# Altium schematic symbol library DOCK_ESP32_v1.0.SCHLIB: 93 symbols (part 2 of 2)
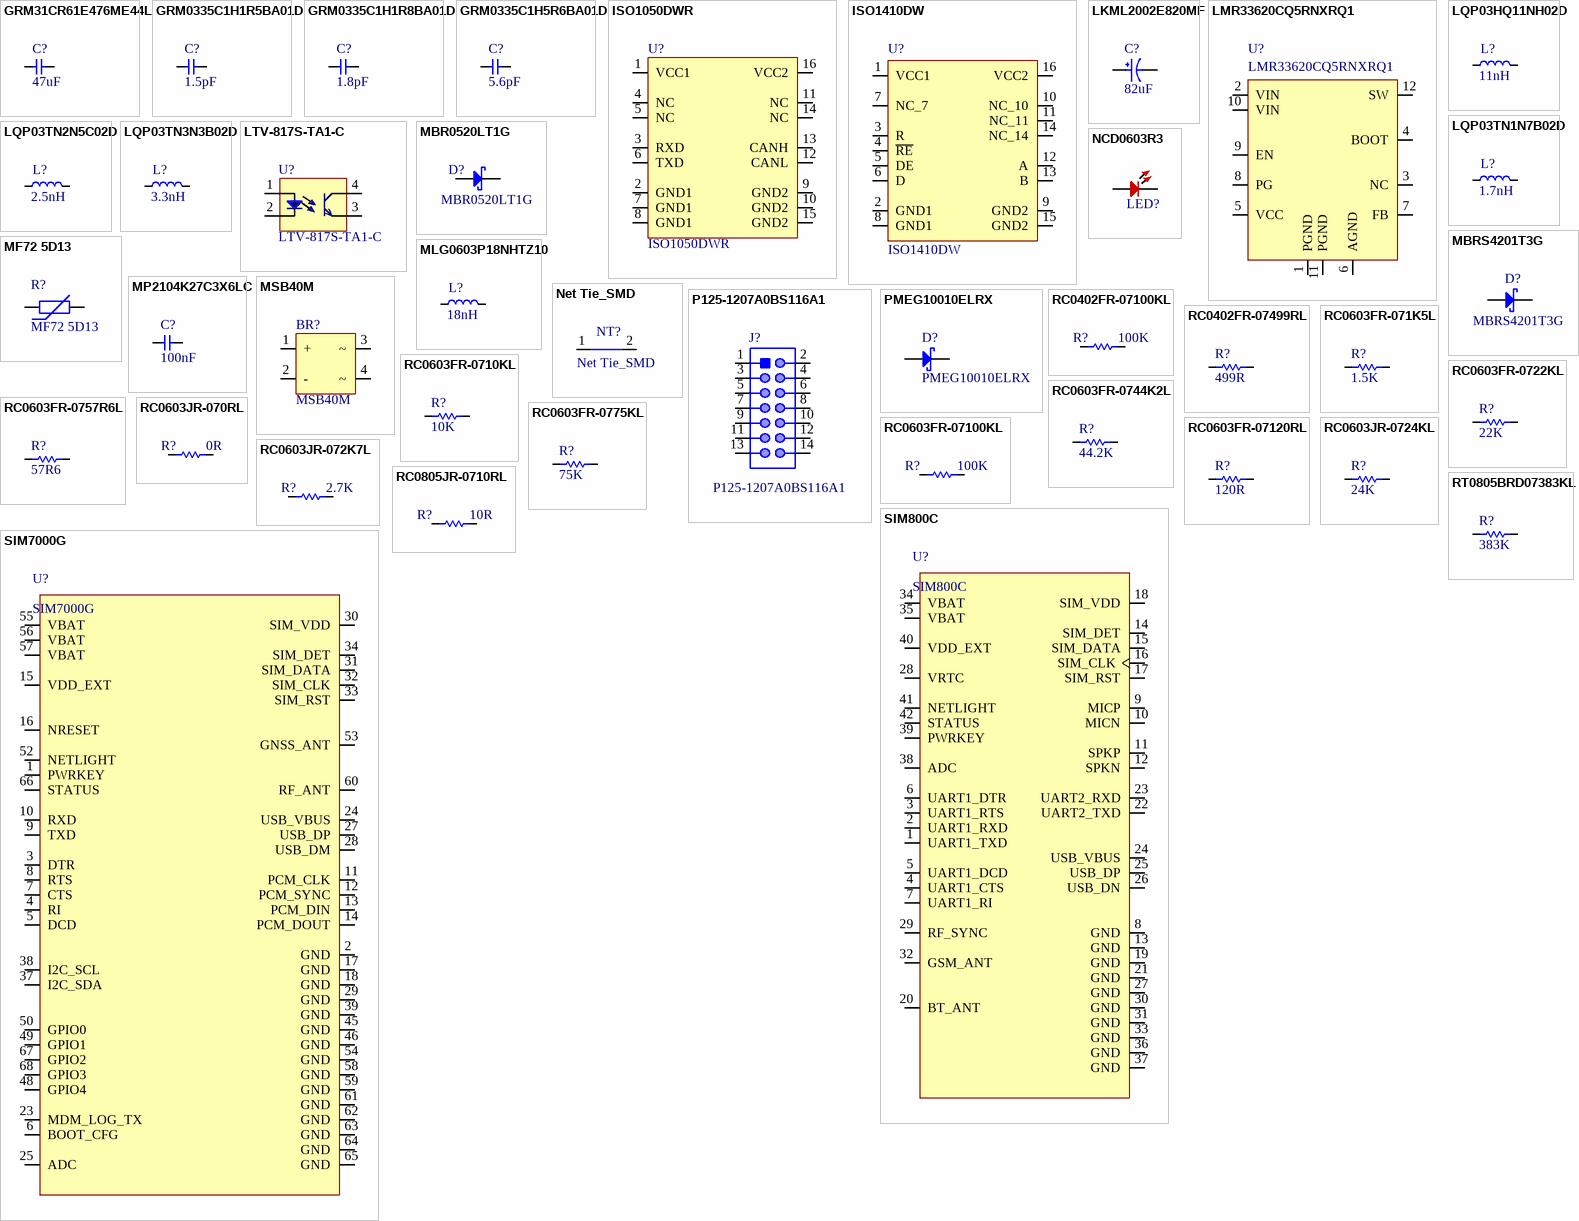
[diagram p3: symbols GRM31CR61E476ME44L to SIM7000G]

## RC0402FR-07100KL
designator R?, comment 100K
RES 100K OHM 1% 1/16W 0402; Manufacturer: Yageo; Manufacturer Part Number: RC0402FR-07100KL; Resistance: 100kR; Temperature Coefficient: 100ppm/°C; Power Rating: 63mW; Voltage Rating: 50V; Item Type: Resistor; Supplier 1: Mouser; RoHS: Yes; Category: Chip SMD Resistors; Stock 1: 7759549; Pricing 1: 1=0.10000, 10=0.01200, 50=0.01200, 100=0.00500, 1000=0.00300, 2500=0.00200, 10000=0.00100 (USD); Case/Package: 0402; Case Code (Metric): 1005; Case Code (Imperial): 0402; Min Operating Temperature: -55°C; Max Operating Temperature: 155°C; Resistor Type: Thick Film; Tolerance: 1%; Packaging: Tape and Reel; Package Quantity: 1; Number of Terminations: 2; Termination: SMD/SMT; Max Power Dissipation: 63mW; Working Voltage: 50V; Features: Moisture Resistant; Series: RC; Resistance Tolerance: 1%; Construction: Rectangular; Technology: THICK FILM; Length: 0.039inch; Width: 0.02inch; Height: 0.016inch; Depth: 0.5mm; REACH SVHC: No SVHC; Lead Free: Lead Free; RoHS Compliant: Yes; Military Standard: Not; ComponentLink1URL: https://datasheet.ciiva.com/11819/0900766b80c66297-11819452.pdf?src-supplier=RSComponents; ComponentLink1Description: https://datasheet.ciiva.com/11819/0900766b80c66297-11819452.pdf?src-supplier=RSComponents; ComponentLink2URL: https://datasheet.ciiva.com/22747/1018594-22747509.pdf?src-supplier=Element14; ComponentLink2Description: https://datasheet.ciiva.com/22747/1018594-22747509.pdf?src-supplier=Element14; ComponentLink3URL: https://datasheet.ciiva.com/2453/pyu-r-int-thick-7-2453362.pdf?src-supplier=Digi-Key; ComponentLink3Description: https://datasheet.ciiva.com/2453/pyu-r-int-thick-7-2453362.pdf?src-supplier=Digi-Key; ComponentLink4URL: https://datasheet.ciiva.com/2453/pyu-r-int-thick-7-2453363.pdf?src-supplier=Digi-Key; ComponentLink4Description: https://datasheet.ciiva.com/2453/pyu-r-int-thick-7-2453363.pdf?src-supplier=Digi-Key; ComponentLink5URL: https://datasheet.ciiva.com/2453/pyu-r-int-thick-7-2453361.pdf?src-supplier=Digi-Key; ComponentLink5Description: https://datasheet.ciiva.com/2453/pyu-r-int-thick-7-2453361.pdf?src-supplier=Digi-Key; ComponentLink6URL: https://datasheet.ciiva.com/12667/pyu-rc0402-51-rohs-l-6-r-12667930.pdf?src-supplier=Mouser; ComponentLink6Description: https://datasheet.ciiva.com/12667/pyu-rc0402-51-rohs-l-6-r-12667930.pdf?src-supplier=Mouser; ComponentLink7URL: https://datasheet.ciiva.com/15189/getdatasheetpartid-323696-15189334.pdf?src-supplier=Verical; ComponentLink7Description: https://datasheet.ciiva.com/15189/getdatasheetpartid-323696-15189334.pdf?src-supplier=Verical; Supplier Part Number 1: 603-RC0402FR-07100KL; LCSC Part Number: C60491
footprint Res-0402
pins: 1, 2

## RC0402FR-07499RL
designator R?, comment 499R
RES 499 OHM 1% 1/16W 0402; Manufacturer: Yageo; Manufacturer Part Number: RC0402FR-07499RL; Power Rating: 62.5mW; Voltage Rating: 50V; Max Power Dissipation: 63mW; Temperature Coefficient: 100ppm/°C; Supplier 1: Mouser; RoHS: Yes; Category: Chip SMD Resistors; Stock 1: 936879; Pricing 1: 1=0.10000, 10=0.01200, 50=0.01200, 100=0.00500, 1000=0.00300, 10000=0.00100 (USD); Case/Package: 0402; Case Code (Metric): 1005; Case Code (Imperial): 0402; Size Code: 0402; Min Operating Temperature: -55°C; Max Operating Temperature: 155°C; Resistance: 499R; Tolerance: 1%; Package Quantity: 1; Packaging: Tape and Reel; Resistor Type: Thick Film; Number of Terminations: 2; Termination: SMD/SMT; Voltage Rating (DC): 50V; Features: Moisture Resistant; Series: RC; Resistance Tolerance: 1%; Construction: Rectangular; Length: 1mm; Width: 0.02inch; Height: 0.016inch; Depth: 0.5mm; RoHS Compliant: Yes; REACH SVHC: No SVHC; Military Standard: Not; Lead Free: Lead Free; ComponentLink1URL: https://datasheet.ciiva.com/2453/pyu-r-int-thick-7-2453539.pdf?src-supplier=Digi-Key; ComponentLink1Description: https://datasheet.ciiva.com/2453/pyu-r-int-thick-7-2453539.pdf?src-supplier=Digi-Key; ComponentLink2URL: https://datasheet.ciiva.com/2453/pyu-r-int-thick-7-2453540.pdf?src-supplier=Digi-Key; ComponentLink2Description: https://datasheet.ciiva.com/2453/pyu-r-int-thick-7-2453540.pdf?src-supplier=Digi-Key; ComponentLink3URL: https://datasheet.ciiva.com/2453/pyu-r-int-thick-7-2453538.pdf?src-supplier=Digi-Key; ComponentLink3Description: https://datasheet.ciiva.com/2453/pyu-r-int-thick-7-2453538.pdf?src-supplier=Digi-Key; Supplier Part Number 1: 603-RC0402FR-07499RL; LCSC Part Number: C137970
footprint Res-0402
pins: 1, 2

## RC0603FR-071K5L
designator R?, comment 1.5K
RES 1.5K OHM 1% 1/10W 0603; Manufacturer: Yageo; Manufacturer Part Number: RC0603FR-071K5L; Voltage Rating (DC): 50V; Resistance: 1.5kR; Temperature Coefficient: 100ppm/°C; Power Rating: 100mW; Item Type: Resistor; Supplier 1: Arrow Electronics; RoHS: Yes; Category: Chip SMD Resistors; Stock 1: 15000; Pricing 1: 1=0.00160, 5000=0.00160 (USD); Case/Package: 0603; Number of Pins: 2; Case Code (Metric): 1608; Case Code (Imperial): 0603; Size Code: 0603; Min Operating Temperature: -55°C; Max Operating Temperature: 155°C; Tolerance: 1%; Packaging: Tape and Reel; Resistor Type: Thick Film; Voltage Rating: 50V; Package Quantity: 1; Number of Terminations: 2; Termination: SMD/SMT; Max Power Dissipation: 100mW; Features: Moisture Resistant; Series: RC; Resistance Tolerance: 1%; Construction: Rectangular; Length: 0.063inch; Width: 0.031inch; Height: 0.022inch; Depth: 0.8mm; REACH SVHC: No SVHC; Lead Free: Lead Free; Military Standard: Not; RoHS Compliant: Yes; Supplier Part Number 1: RC0603FR-071K5L; LCSC Part Number: C114668
footprint Res-0603
footprint Res-0603
pins: 1, 2

## RC0603FR-0710KL
designator R?, comment 10K
RES SMD 10K Ohm 1% 1/10W 0603; Manufacturer: Yageo; Manufacturer Part Number: RC0603FR-0710KL; Item Type: Resistor; Resistance: 10kR; Temperature Coefficient: 100ppm/°C; Voltage Rating (DC): 50V; Power Rating: 100mW; Voltage Rating: 75V; RoHS: Yes; Category: Chip SMD Resistors; LCSC Part Number: C98220; Supplier 1: Digi-Key; Stock 1: 25249139; Pricing 1: 1=0.10000, 10=0.02400, 100=0.00970, 1000=0.00436, 2500=0.00378 (USD); Case/Package: 0603; Number of Pins: 2; Case Code (Imperial): 0603; Case Code (Metric): 1608; Weight: 7.1E-05oz; Size Code: 0603; Min Operating Temperature: -55°C; Max Operating Temperature: 155°C; Tolerance: 1%; Resistor Type: Thick Film; Packaging: Tape and Reel; Termination: SMD/SMT; Features: Moisture Resistant; Series: RC; Max Power Dissipation: 100mW; Number of Terminations: 2; Resistance Tolerance: 1%; Construction: Rectangular; Length: 1.6mm; Width: 0.8mm; Height: 0.45mm; Depth: 0.8mm; Lead Pitch: 0.3mm; REACH SVHC: Unknown; Lead Free: Lead Free; Military Standard: Not; RoHS Compliant: Yes; ComponentLink1URL: https://datasheet.ciiva.com/7660/38590-7660789.pdf?src-supplier=Element14; ComponentLink1Description: https://datasheet.ciiva.com/7660/38590-7660789.pdf?src-supplier=Element14; ComponentLink2URL: https://datasheet.ciiva.com/7983/443971-7983596.pdf?src-supplier=Element14; ComponentLink2Description: https://datasheet.ciiva.com/7983/443971-7983596.pdf?src-supplier=Element14; ComponentLink3URL: https://datasheet.ciiva.com/22747/443971-22747519.pdf?src-supplier=Element14; ComponentLink3Description: https://datasheet.ciiva.com/22747/443971-22747519.pdf?src-supplier=Element14; ComponentLink4URL: https://datasheet.ciiva.com/46440/1868787-46440891.pdf?src-supplier=Element14; ComponentLink4Description: https://datasheet.ciiva.com/46440/1868787-46440891.pdf?src-supplier=Element14; ComponentLink5URL: https://datasheet.ciiva.com/7746/1738695-7746239.pdf?src-supplier=Element14; ComponentLink5Description: https://datasheet.ciiva.com/7746/1738695-7746239.pdf?src-supplier=Element14; ComponentLink6URL: https://datasheet.ciiva.com/15189/getdatasheetpartid-409289-15189591.pdf?src-supplier=Verical; ComponentLink6Description: https://datasheet.ciiva.com/15189/getdatasheetpartid-409289-15189591.pdf?src-supplier=Verical; Supplier Part Number 1: 311-10.0KHRCT-ND
footprint Res-0603
footprint Res-0603
pins: 1, 2

## RC0603FR-0722KL
designator R?, comment 22K
RES 22K OHM 1% 1/10W 0603; Manufacturer: Yageo; Manufacturer Part Number: RC0603FR-0722KL; Item Type: Resistors; Value: 22kR; Temperature Coefficient: 100ppm/°C; Voltage Rating (DC): 50V; Power Rating: 100mW; Shielding: 202Shielding; Current Rating: 290mA; Supplier: Future Electronics; LCSC Part Number: C114065; RoHS: Yes; Stock: 1285000; Pricing: 5000=0.0008, 50000=0.0008, 150000=0.0008, 375000=0.0008, 1000000=0.0007 (USD); Case/Package: 0603; Pins: 2; Case Code (Imperial): 0603; Case Code (Metric): 1608; Min Operating Temperature: -55°C; Max Operating Temperature: 155°C; Tolerance: 1%; Resistor Type: Thick Film; Packaging: Tape and Reel; Voltage Rating: 50V; Package Quantity: 1; Termination: SMD/SMT; Number of Terminations: 2; Max Power Dissipation: 100mW; Features: Moisture Resistant; Series: RC; Resistance Tolerance: 1%; Construction: Rectangular; Voltage Rating (AC): 50V; Diameter: 8.5mm; Length: 0.063inch; Width: 0.031inch; Height: 0.022inch; Depth: 0.8mm; Lead Pitch: 5mm; Radiation Hardening: 5898YesNo; Reach SVHC Compliant: No; Lead Free: 5697LeadFree; Military Standard: Not; RoHS Compliant: Yes; ComponentLink1URL: https://datasheet.ciiva.com/2454/pyu-r-int-thick-7-2454424.pdf?src-supplier=Digikey; ComponentLink1Description: https://datasheet.ciiva.com/2454/pyu-r-int-thick-7-2454424.pdf?src-supplier=Digikey; ComponentLink2URL: https://datasheet.ciiva.com/2454/pyu-r-int-thick-7-2454425.pdf?src-supplier=Digikey; ComponentLink2Description: https://datasheet.ciiva.com/2454/pyu-r-int-thick-7-2454425.pdf?src-supplier=Digikey; ComponentLink3URL: https://datasheet.ciiva.com/2454/pyu-r-int-thick-7-2454423.pdf?src-supplier=Digikey; ComponentLink3Description: https://datasheet.ciiva.com/2454/pyu-r-int-thick-7-2454423.pdf?src-supplier=Digikey; ComponentLink4URL: https://datasheet.ciiva.com/7746/443971-7746303.pdf?src-supplier=Element14; ComponentLink4Description: https://datasheet.ciiva.com/7746/443971-7746303.pdf?src-supplier=Element14; ComponentLink5URL: https://datasheet.ciiva.com/15189/getdatasheetpartid-413247-15189661.pdf?src-supplier=Verical; ComponentLink5Description: https://datasheet.ciiva.com/15189/getdatasheetpartid-413247-15189661.pdf?src-supplier=Verical; ComponentLink6URL: https://datasheet.ciiva.com/7746/1686128-7746302.pdf?src-supplier=Element14; ComponentLink6Description: https://datasheet.ciiva.com/7746/1686128-7746302.pdf?src-supplier=Element14; ComponentLink7URL: https://datasheet.ciiva.com/46412/443971-46412846.pdf?src-supplier=Element14; ComponentLink7Description: https://datasheet.ciiva.com/46412/443971-46412846.pdf?src-supplier=Element14
footprint Res-0603
pins: 1, 2

## RC0603FR-0744K2L
designator R?, comment 44.2K
RES 44.2K OHM 1% 1/10W 0603; Manufacturer: Yageo; Manufacturer Part Number: RC0603FR-0744K2L; Item Type: Resistors; Voltage Rating (DC): 50V; Supplier: Digikey; LCSC Part Number: C95684; RoHS: Yes; Stock: 163731; Pricing: 1=0.1, 10=0.009, 100=0.0071, 1000=0.00612, 2500=0.00461 (USD); Lead Free: 5697LeadFree; ComponentLink1URL: https://datasheet.ciiva.com/11819/0900766b80f96399-11819371.pdf?src-supplier=Rs; ComponentLink1Description: https://datasheet.ciiva.com/11819/0900766b80f96399-11819371.pdf?src-supplier=Rs; ComponentLink2URL: https://datasheet.ciiva.com/2455/pyu-r-int-thick-7-2455152.pdf?src-supplier=Digikey; ComponentLink2Description: https://datasheet.ciiva.com/2455/pyu-r-int-thick-7-2455152.pdf?src-supplier=Digikey; ComponentLink3URL: https://datasheet.ciiva.com/2455/pyu-r-int-thick-7-2455153.pdf?src-supplier=Digikey; ComponentLink3Description: https://datasheet.ciiva.com/2455/pyu-r-int-thick-7-2455153.pdf?src-supplier=Digikey; ComponentLink4URL: https://datasheet.ciiva.com/2455/pyu-r-int-thick-7-2455154.pdf?src-supplier=Digikey; ComponentLink4Description: https://datasheet.ciiva.com/2455/pyu-r-int-thick-7-2455154.pdf?src-supplier=Digikey
footprint Res-0603
pins: 1, 2

## RC0603FR-0757R6L
designator R?, comment 57R6
RES SMD 57.6 OHM 1% 1/10W 0603; Manufacturer: Yageo; Manufacturer Part Number: RC0603FR-0757R6L; Voltage Rating: 50V; Power Rating: 100mW; Temperature Coefficient: 100ppm/°C; Resistance: 57.6R; RoHS: Yes; Category: Chip SMD Resistors; Case/Package: 0603; Case Code (Metric): 1608; Case Code (Imperial): 0603; Min Operating Temperature: -55°C; Max Operating Temperature: 155°C; Tolerance: 1%; Packaging: Tape and Reel; Package Quantity: 1; Termination: SMD/SMT; Number of Terminations: 2; Max Power Dissipation: 100mW; Voltage Rating (DC): 50V; Series: RC; Length: 1.6mm; Width: 0.031inch; Height: 0.022inch; Lead Free: Lead Free; RoHS Compliant: Yes; ComponentLink1URL: https://datasheet.ciiva.com/2455/pyu-r-int-thick-7-2455376.pdf?src-supplier=Digi-Key; ComponentLink1Description: https://datasheet.ciiva.com/2455/pyu-r-int-thick-7-2455376.pdf?src-supplier=Digi-Key; ComponentLink2URL: https://datasheet.ciiva.com/28398/pyu-rc0603-51-rohs-l-4-28398203.pdf?src-supplier=Avnet+Europe; ComponentLink2Description: https://datasheet.ciiva.com/28398/pyu-rc0603-51-rohs-l-4-28398203.pdf?src-supplier=Avnet+Europe; LCSC Part Number: C245984; Supplier 1: Digi-Key; Stock 1: 27520; Pricing 1: 1=0.10000, 10=0.02400, 100=0.00970, 1000=0.00436, 2500=0.00378 (USD); Contact Plating: Tin,Matte; Resistor Type: Thick Film; Features: Moisture Resistant; Construction: Rectangular; Depth: 0.8mm; Military Standard: Not; ComponentLink3URL: https://datasheet.ciiva.com/2455/pyu-r-int-thick-7-2455374.pdf?src-supplier=Digi-Key; ComponentLink3Description: https://datasheet.ciiva.com/2455/pyu-r-int-thick-7-2455374.pdf?src-supplier=Digi-Key; ComponentLink4URL: https://datasheet.ciiva.com/12561/rc0603-272842-12561230.pdf?src-supplier=Mouser; ComponentLink4Description: https://datasheet.ciiva.com/12561/rc0603-272842-12561230.pdf?src-supplier=Mouser; ComponentLink5URL: https://datasheet.ciiva.com/2455/pyu-r-int-thick-7-2455375.pdf?src-supplier=Digi-Key; ComponentLink5Description: https://datasheet.ciiva.com/2455/pyu-r-int-thick-7-2455375.pdf?src-supplier=Digi-Key; Supplier Part Number 1: 311-57.6HRCT-ND
footprint Res-0603
footprint Res-0603
pins: 1, 2

## RC0603FR-0775KL
designator R?, comment 75K
RES 75K OHM 1% 1/10W 0603; Manufacturer: Yageo; Manufacturer Part Number: RC0603FR-0775KL; Item Type: Resistor; Value: 75kR; Power Rating: 100mW; Voltage Rating: 50V; Temperature Coefficient: 100ppm/°C; Supplier: Future Electronics; LCSC Part Number: C114636; RoHS: Yes; Stock: 550000; Pricing: 5000=0.0015, 75000=0.0015, 250000=0.0014, 750000=0.0013, 2500000=0.0012 (USD); Case/Package: 0603; Pins: 2NUMBER; Case Code (Imperial): 0603; Case Code (Metric): 1608; Min Operating Temperature: -55°C; Max Operating Temperature: 155°C; Tolerance: 1%; Packaging: Tape and Reel; Termination: SMD/SMT; Resistor Type: Thick Film; Number of Terminations: 2; Max Power Dissipation: 100mW; Features: Moisture Resistant; Series: RC; Technology: THICK FILM; Resistance Tolerance: 1%; Construction: Rectangular; Voltage Rating (DC): 50V; Length: 1.6mm; Height: 0.45mm; Depth: 0.8mm; RoHS Compliant: Yes; Reach SVHC Compliant: No; Military Standard: Not; Lead Free: 5697LeadFree; ComponentLink1URL: https://datasheet.ciiva.com/11808/0900766b80f96399-11808100.pdf?src-supplier=Rs; ComponentLink1Description: https://datasheet.ciiva.com/11808/0900766b80f96399-11808100.pdf?src-supplier=Rs; ComponentLink2URL: https://datasheet.ciiva.com/15189/getdatasheetpartid-326733-15189816.pdf?src-supplier=Verical; ComponentLink2Description: https://datasheet.ciiva.com/15189/getdatasheetpartid-326733-15189816.pdf?src-supplier=Verical; ComponentLink3URL: https://datasheet.ciiva.com/2455/pyu-r-int-thick-7-2455324.pdf?src-supplier=Digikey; ComponentLink3Description: https://datasheet.ciiva.com/2455/pyu-r-int-thick-7-2455324.pdf?src-supplier=Digikey; ComponentLink4URL: https://datasheet.ciiva.com/2455/pyu-r-int-thick-7-2455325.pdf?src-supplier=Digikey; ComponentLink4Description: https://datasheet.ciiva.com/2455/pyu-r-int-thick-7-2455325.pdf?src-supplier=Digikey; ComponentLink5URL: https://datasheet.ciiva.com/2455/pyu-r-int-thick-7-2455323.pdf?src-supplier=Digikey; ComponentLink5Description: https://datasheet.ciiva.com/2455/pyu-r-int-thick-7-2455323.pdf?src-supplier=Digikey; ComponentLink6URL: https://datasheet.ciiva.com/46395/443971-46395017.pdf?src-supplier=Element14; ComponentLink6Description: https://datasheet.ciiva.com/46395/443971-46395017.pdf?src-supplier=Element14
footprint Res-0603
pins: 1, 2

## RC0603FR-07100KL
designator R?, comment 100K
RES 100K OHM 1% 1/10W 0603; Manufacturer: Yageo; Manufacturer Part Number: RC0603FR-07100KL; Item Type: Resistors; Value: 100kR; Temperature Coefficient: 100ppm/°C; Voltage Rating (DC): 50V; Power Rating: 100mW; Supplier: Rs; LCSC Part Number: C14675; RoHS: Yes; Stock: 27300; Case/Package: 0603; Pins: 2; Case Code (Imperial): 0603; Case Code (Metric): 1608; Min Operating Temperature: -55°C; Max Operating Temperature: 155°C; Tolerance: 1%; Resistor Type: Thick Film; Packaging: Tape and Reel; Voltage Rating: 50V; Termination: SMD/SMT; Number of Terminations: 2; Features: Moisture Resistant; Series: RC; Max Power Dissipation: 100mW; Resistance Tolerance: 1%; Construction: Rectangular; Technology: THICK FILM; Length: 1.6mm; Width: 0.8mm; Height: 0.45mm; Depth: 0.8mm; Reach SVHC Compliant: No; Lead Free: 5697LeadFree; Military Standard: Not; RoHS Compliant: Yes; Supplier Part Number: 2424020; Category: Chip SMD Resistors; Mounting Technology: Surface Mount; Weight: 7.1E-05oz; Package Quantity: 5000; ComponentLink1URL: https://datasheet.ciiva.com/11819/0900766b80f96399-11819227.pdf?src-supplier=Rs; ComponentLink1Description: https://datasheet.ciiva.com/11819/0900766b80f96399-11819227.pdf?src-supplier=Rs; ComponentLink2URL: https://datasheet.ciiva.com/2455/pyu-r-int-thick-7-2455183.pdf?src-supplier=Digikey; ComponentLink2Description: https://datasheet.ciiva.com/2455/pyu-r-int-thick-7-2455183.pdf?src-supplier=Digikey; ComponentLink3URL: https://datasheet.ciiva.com/2455/pyu-r-int-thick-7-2455184.pdf?src-supplier=Digikey; ComponentLink3Description: https://datasheet.ciiva.com/2455/pyu-r-int-thick-7-2455184.pdf?src-supplier=Digikey; ComponentLink4URL: https://datasheet.ciiva.com/2455/pyu-r-int-thick-7-2455182.pdf?src-supplier=Digikey; ComponentLink4Description: https://datasheet.ciiva.com/2455/pyu-r-int-thick-7-2455182.pdf?src-supplier=Digikey
footprint Res-0603
pins: 1, 2

## RC0603FR-07120RL
designator R?, comment 120R
RES 120 OHM 1% 1/10W 0603; Manufacturer: Yageo; Manufacturer Part Number: RC0603FR-07120RL; Temperature Coefficient: 100ppm/°C; Voltage Rating (DC): 50V; Power Rating: 100mW; Item Type: Resistor; Supplier 1: Digi-Key; RoHS: Yes; Category: Chip SMD Resistors; Stock 1: 839061; Pricing 1: 1=0.10000, 10=0.02400, 100=0.00970, 1000=0.00436, 2500=0.00378 (USD); Case/Package: 0603; Number of Pins: 2; Case Code (Metric): 1608; Case Code (Imperial): 0603; Size Code: 0603; Min Operating Temperature: -55°C; Max Operating Temperature: 155°C; Resistance: 120R; Tolerance: 1%; Resistor Type: Thick Film; Packaging: Tape and Reel; Voltage Rating: 50V; Package Quantity: 1; Number of Terminations: 2; Termination: SMD/SMT; Max Power Dissipation: 100mW; Features: Moisture Resistant; Series: RC; Construction: Rectangular; Resistance Tolerance: 1%; Length: 1.6mm; Width: 0.031inch; Height: 0.022inch; Depth: 0.8mm; REACH SVHC: No SVHC; Lead Free: Lead Free; Military Standard: Not; RoHS Compliant: Yes; ComponentLink1URL: https://datasheet.ciiva.com/2553/pyu-r-int-thick-7-2553512.pdf?src-supplier=Digi-Key; ComponentLink1Description: https://datasheet.ciiva.com/2553/pyu-r-int-thick-7-2553512.pdf?src-supplier=Digi-Key; ComponentLink2URL: https://datasheet.ciiva.com/7746/443971-7746248.pdf?src-supplier=Element14; ComponentLink2Description: https://datasheet.ciiva.com/7746/443971-7746248.pdf?src-supplier=Element14; ComponentLink3URL: https://datasheet.ciiva.com/2553/pyu-r-int-thick-7-2553513.pdf?src-supplier=Digi-Key; ComponentLink3Description: https://datasheet.ciiva.com/2553/pyu-r-int-thick-7-2553513.pdf?src-supplier=Digi-Key; ComponentLink4URL: https://datasheet.ciiva.com/7746/443971-7746249.pdf?src-supplier=Element14; ComponentLink4Description: https://datasheet.ciiva.com/7746/443971-7746249.pdf?src-supplier=Element14; ComponentLink5URL: https://datasheet.ciiva.com/2553/pyu-r-int-thick-7-2553514.pdf?src-supplier=Digi-Key; ComponentLink5Description: https://datasheet.ciiva.com/2553/pyu-r-int-thick-7-2553514.pdf?src-supplier=Digi-Key; ComponentLink6URL: https://datasheet.ciiva.com/46395/443971-46395021.pdf?src-supplier=Element14; ComponentLink6Description: https://datasheet.ciiva.com/46395/443971-46395021.pdf?src-supplier=Element14; Supplier Part Number 1: 311-120HRCT-ND; LCSC Part Number: C114640
footprint Res-0603
pins: 1, 2

## RC0603JR-070RL
designator R?, comment 0R
RES 0 OHM JUMPER 1/10W 0603; Manufacturer: Yageo; Manufacturer Part Number: RC0603JR-070RL; Resistance: 0mR; Tolerance: 1%; Power Rating: 100mW; Voltage Rating (DC): 50V; Temperature Coefficient: 200ppm/°C; Resistance Tolerance: 5%; Item Type: Resistor; Supplier 1: Digi-Key; RoHS: Yes; Category: Chip SMD Resistors; Stock 1: 18081776; Pricing 1: 1=0.10000, 10=0.01700, 25=0.01240, 50=0.00960, 100=0.00700, 250=0.00536, 500=0.00430, 1000=0.00316 (USD); Case/Package: 0603; Number of Pins: 2; Contact Plating: Tin,Matte; Case Code (Imperial): 0603; Case Code (Metric): 1608; Size Code: 0603; Min Operating Temperature: -55°C; Max Operating Temperature: 155°C; Resistor Type: Thick Film; Packaging: Tape and Reel; Termination: SMD/SMT; Series: RC; Technology: THICK FILM; Package Quantity: 5000; Voltage Rating: 50V; Features: Moisture Resistant; Max Power Dissipation: 100mW; Number of Terminations: 2; Construction: Rectangular; Length: 1.6mm; Width: 0.8mm; Height: 0.45mm; Depth: 0.8mm; Radiation Hardening: No; Reach SVHC Compliant: No SVHC; Lead Free: Lead Free; RoHS Compliant: Yes; Military Standard: Not; Supplier Part Number 1: 311-0.0GRCT-ND; LCSC Part Number: C95177
footprint Res-0603
pins: 1, 2

## RC0603JR-072K7L
designator R?, comment 2.7K
RES 2.7K OHM 5% 1/10W 0603; Manufacturer: Yageo; Manufacturer Part Number: RC0603JR-072K7L; Item Type: Resistors; Voltage Rating (AC): 50V; Supplier: Digikey; LCSC Part Number: C127451; RoHS: Yes; Stock: 1341093; Pricing: 1=0.1, 10=0.006, 50=0.0056, 100=0.0051, 500=0.00498 (USD); Lead Free: 5697LeadFree; ComponentLink1URL: https://datasheet.ciiva.com/12555/rc0603-272842-12555110.pdf?src-supplier=Mouser; ComponentLink1Description: https://datasheet.ciiva.com/12555/rc0603-272842-12555110.pdf?src-supplier=Mouser; ComponentLink2URL: https://datasheet.ciiva.com/2452/pyu-r-int-thick-7-2452860.pdf?src-supplier=Digikey; ComponentLink2Description: https://datasheet.ciiva.com/2452/pyu-r-int-thick-7-2452860.pdf?src-supplier=Digikey; ComponentLink3URL: https://datasheet.ciiva.com/2452/pyu-r-int-thick-7-2452861.pdf?src-supplier=Digikey; ComponentLink3Description: https://datasheet.ciiva.com/2452/pyu-r-int-thick-7-2452861.pdf?src-supplier=Digikey; ComponentLink4URL: https://datasheet.ciiva.com/2452/pyu-r-int-thick-7-2452862.pdf?src-supplier=Digikey; ComponentLink4Description: https://datasheet.ciiva.com/2452/pyu-r-int-thick-7-2452862.pdf?src-supplier=Digikey
footprint Res-0603
pins: 1, 2

## RC0603JR-0724KL
designator R?, comment 24K
RES 24K OHM 5% 1/10W 0603; Manufacturer: Yageo; Manufacturer Part Number: RC0603JR-0724KL; Item Type: Resistors; Supplier: Digikey; LCSC Part Number: C137644; RoHS: Yes; Stock: 92506; Pricing: 1=0.1, 10=0.008, 50=0.0072, 100=0.0061, 500=0.0056, 1000=0.0051 (USD); ComponentLink1URL: http://www.mouser.com/catalog/specsheets/RC0603.pdf?src-supplier=Mouser; ComponentLink1Description: http://www.mouser.com/catalog/specsheets/RC0603.pdf?src-supplier=Mouser; ComponentLink2URL: http://www.yageo.com/documents/recent/PYu-RC_Group_51_RoHS_L_9.pdf?src-supplier=Digikey; ComponentLink2Description: http://www.yageo.com/documents/recent/PYu-RC_Group_51_RoHS_L_9.pdf?src-supplier=Digikey; ComponentLink3URL: http://www.yageo.com/documents/recent/PYu-RC_Group_51_RoHS_L_10.pdf?src-supplier=Digikey; ComponentLink3Description: http://www.yageo.com/documents/recent/PYu-RC_Group_51_RoHS_L_10.pdf?src-supplier=Digikey; ComponentLink4URL: http://www.yageo.com.tw/exep/pages/download/literatures/PYu-R_INT-thick_7.pdf?src-supplier=Digikey; ComponentLink4Description: http://www.yageo.com.tw/exep/pages/download/literatures/PYu-R_INT-thick_7.pdf?src-supplier=Digikey; ComponentLink5URL: https://datasheet.octopart.com/RC0603JR-0724KL-Yageo-datasheet-164759695.pdf?src-supplier=Future+Electronics; ComponentLink5Description: https://datasheet.octopart.com/RC0603JR-0724KL-Yageo-datasheet-164759695.pdf?src-supplier=Future+Electronics; ComponentLink6URL: http://www.yageo.com/documents/recent/PYu-RC0603_51_RoHS_L_7.pdf?src-supplier=Future+Electronics; ComponentLink6Description: http://www.yageo.com/documents/recent/PYu-RC0603_51_RoHS_L_7.pdf?src-supplier=Future+Electronics
footprint Res-0603
pins: 1, 2

## RC0805JR-0710RL
designator R?, comment 10R
RES 10 OHM 5% 1/8W 0805; Manufacturer: Yageo; Manufacturer Part Number: RC0805JR-0710RL; Item Type: Resistors; Temperature Coefficient: 200ppm/°C; Voltage Rating: 150V; Power Rating: 125mW; Supplier: Avnet; LCSC Part Number: C137478; RoHS: Yes; Stock: 75000; Pricing: 5000=0.00455, 10000=0.00448, 20000=0.00441, 30000=0.00434, 40000=0.00427 (USD); Case/Package: 0805; Contact Plating: Tin,Lead; Case Code (Imperial): 0805; Case Code (Metric): 2012; Min Operating Temperature: -55°C; Max Operating Temperature: 155°C; Tolerance: 5%; Value: 10R; Packaging: Tape and Reel; Resistor Type: Thick Film; Package Quantity: 1; Termination: SMD/SMT; Number of Terminations: 2; Max Power Dissipation: 125mW; Features: Moisture Resistant; Series: RC; Resistance Tolerance: 5%; Length: 0.079inch; Width: 0.049inch; Height: 0.024inch; Lead Free: Lead Free; RoHS Compliant: Yes; Reach SVHC Compliant: Unknown; ComponentLink1URL: https://datasheet.ciiva.com/46395/444164-46395129.pdf?src-supplier=Element14; ComponentLink1Description: https://datasheet.ciiva.com/46395/444164-46395129.pdf?src-supplier=Element14; ComponentLink2URL: https://datasheet.ciiva.com/2456/pyu-r-int-thick-7-2456041.pdf?src-supplier=Digikey; ComponentLink2Description: https://datasheet.ciiva.com/2456/pyu-r-int-thick-7-2456041.pdf?src-supplier=Digikey; ComponentLink3URL: https://datasheet.ciiva.com/2456/pyu-r-int-thick-7-2456042.pdf?src-supplier=Digikey; ComponentLink3Description: https://datasheet.ciiva.com/2456/pyu-r-int-thick-7-2456042.pdf?src-supplier=Digikey; ComponentLink4URL: https://datasheet.ciiva.com/2456/pyu-r-int-thick-7-2456040.pdf?src-supplier=Digikey; ComponentLink4Description: https://datasheet.ciiva.com/2456/pyu-r-int-thick-7-2456040.pdf?src-supplier=Digikey; ComponentLink5URL: https://datasheet.ciiva.com/12667/rc0805-12667031.pdf?src-supplier=Mouser; ComponentLink5Description: https://datasheet.ciiva.com/12667/rc0805-12667031.pdf?src-supplier=Mouser
footprint RES-0805 (SMD 0805)
pins: 1, 2

## RT0805BRD07383KL
designator R?, comment 383K
RES SMD 383K OHM 0.1% 1/8W 0805; Manufacturer: Yageo; Manufacturer Part Number: RT0805BRD07383KL; Item Type: Resistors; Supplier: Digikey; LCSC Part Number: C865439; RoHS: Yes; Pricing: 5000=0.04379 (USD); ComponentLink1URL: https://datasheet.ciiva.com/12706/pyu-rt-1-to-0-05-rohs-l-4-12706709.pdf?src-supplier=Mouser; ComponentLink1Description: https://datasheet.ciiva.com/12706/pyu-rt-1-to-0-05-rohs-l-4-12706709.pdf?src-supplier=Mouser; ComponentLink2URL: https://datasheet.ciiva.com/8885/pyu-rt-1-to-0-05-rohs-l-4-8885958.pdf?src-supplier=Avnet; ComponentLink2Description: https://datasheet.ciiva.com/8885/pyu-rt-1-to-0-05-rohs-l-4-8885958.pdf?src-supplier=Avnet
footprint RES-0805 (SMD 0805)
pins: 1, 2

## SIM800C
designator U?
Module: GSM/Bluetooth; GPRS; 2G; 1800MHz, 900MHz; 85.6kbps; SMD; MF: Simcom; Value: SIM800C; MP: SIM800C; SnapEDA_Link: https://www.snapeda.com/parts/SIM800C/SIMcom+Wireless+solutions+Co.%252CLtd/view-part/?ref=snap
footprint LCC110P1570X1760X250-42N
footprint LCC110P1570X1760X250-42N
pins: 1 UART1_TXD, 2 UART1_RXD, 3 UART1_RTS, 4 UART1_CTS, 5 UART1_DCD, 6 UART1_DTR, 7 UART1_RI, 8 GND, 9 MICP, 10 MICN, 11 SPKP, 12 SPKN, 13 GND, 14 SIM_DET, 15 SIM_DATA, 16 SIM_CLK, 17 SIM_RST, 18 SIM_VDD, 19 GND, 20 BT_ANT, 21 GND, 22 UART2_TXD, 23 UART2_RXD, 24 USB_VBUS, 25 USB_DP, 26 USB_DN, 27 GND, 28 VRTC, 29 RF_SYNC, 30 GND, 31 GND, 32 GSM_ANT, 33 GND, 34 VBAT, 35 VBAT, 36 GND, 37 GND, 38 ADC, 39 PWRKEY, 40 VDD_EXT, 41 NETLIGHT, 42 STATUS

## SIM7000G
designator U?
Multi-Band LTE-FDD and Dual-Band GSM/GPRS/EDGE module solution in a SMT type which supports LTE eMTC(CAT-M1) and NB-IoT up to 375kbps for downlink data transfer.; MP: SIM7000E; MF: SIMCom; Value: SIM7000G
footprint SIMCON_SIM7000G
pins: 1 PWRKEY, 2 GND, 3 DTR, 4 RI, 5 DCD, 6 BOOT_CFG, 7 CTS, 8 RTS, 9 TXD, 10 RXD, 11 PCM_CLK, 12 PCM_SYNC, 13 PCM_DIN, 14 PCM_DOUT, 15 VDD_EXT, 16 NRESET, 17 GND, 18 GND, 23 MDM_LOG_TX, 24 USB_VBUS, 25 ADC, 27 USB_DP, 28 USB_DM, 29 GND, 30 SIM_VDD, 31 SIM_DATA, 32 SIM_CLK, 33 SIM_RST, 34 SIM_DET, 37 I2C_SDA, 38 I2C_SCL, 39 GND, 45 GND, 46 GND, 48 GPIO4, 49 GPIO1, 50 GPIO0, 52 NETLIGHT, 53 GNSS_ANT, 54 GND, 55 VBAT (power), 56 VBAT (power), 57 VBAT (power), 58 GND, 59 GND, 60 RF_ANT, 61 GND, 62 GND, 63 GND, 64 GND, 65 GND, 66 STATUS, 67 GPIO2, 68 GPIO3

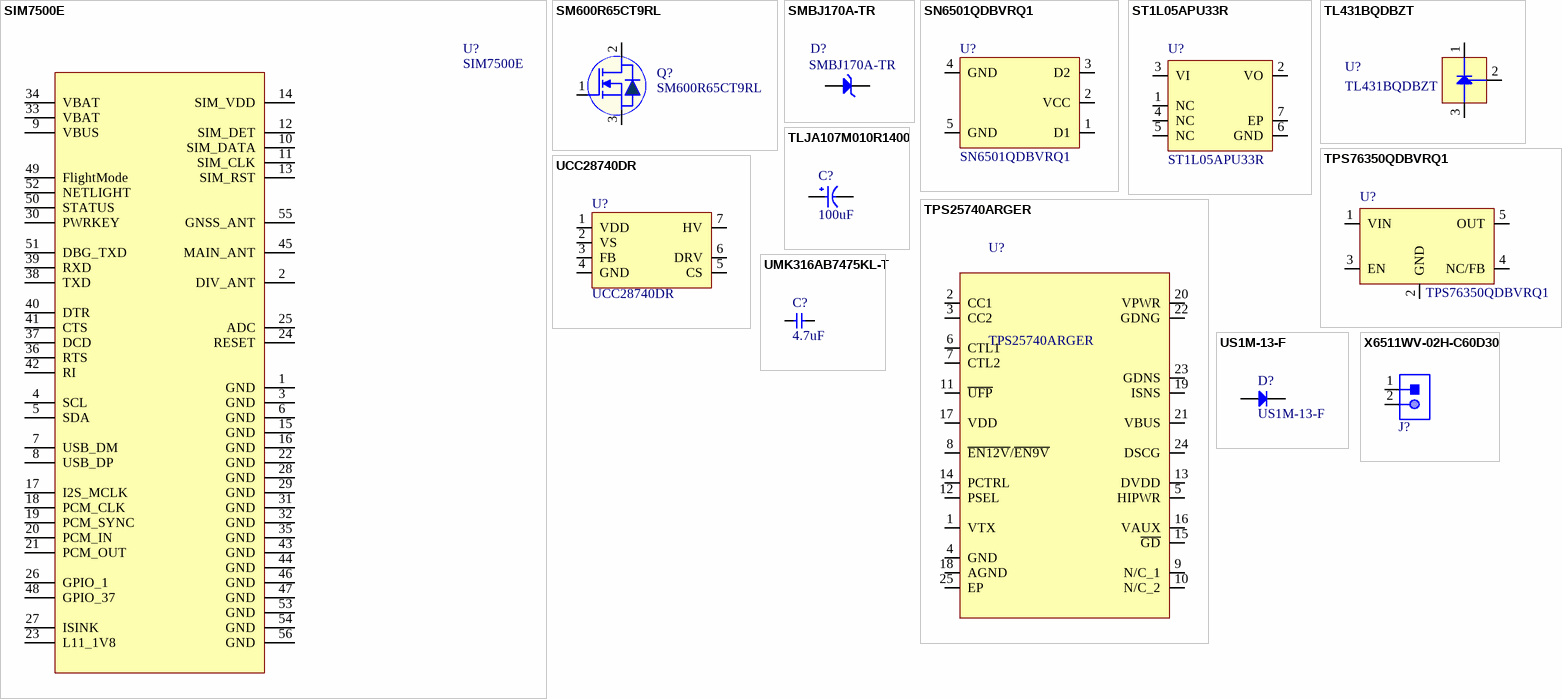
[diagram p2: symbols SIM7500E to X6511WV-02H-C60D30]

## SIM7500E
designator U?
SMD,30x30mm 2G/3G/4G/5G Modules ROHS; Manufacturer: SIMCom; Item Type: IC; Manufacturer Part Number: SIM7500E; Package: SMD,30x30mm; LCSC Part Number: C126259; ComponentLink1Description: LCSC; ComponentLink1URL: https://www.lcsc.com/product-detail/2G-3G-4G-5G-Modules_SIMCom-Wireless-Solutions-SIM7500E_C126259.html
footprint SIM7500E
pins: 1 GND, 2 DIV_ANT, 3 GND, 4 SCL, 5 SDA, 6 GND, 7 USB_DM, 8 USB_DP, 9 VBUS, 10 SIM_DATA, 11 SIM_CLK, 12 SIM_DET, 13 SIM_RST, 14 SIM_VDD, 15 GND, 16 GND, 17 I2S_MCLK, 18 PCM_CLK, 19 PCM_SYNC, 20 PCM_IN, 21 PCM_OUT, 22 GND, 23 L11_1V8, 24 RESET, 25 ADC, 26 GPIO_1, 27 ISINK, 28 GND, 29 GND, 30 PWRKEY, 31 GND, 32 GND, 33 VBAT, 34 VBAT, 35 GND, 36 RTS, 37 DCD, 38 TXD, 39 RXD, 40 DTR, 41 CTS, 42 RI, 43 GND, 44 GND, 45 MAIN_ANT, 46 GND, 47 GND, 48 GPIO_37, 49 FlightMode, 50 STATUS, 51 DBG_TXD, 52 NETLIGHT, 53 GND, 54 GND, 55 GNSS_ANT, 56 GND

## SM600R65CT9RL
designator Q?
650V 7A 0.6Ω@10V,3.5A 63W 4V 1 N-channel TO-252-2 MOSFETs ROHS; Manufacturer: SPS; Item Type: Mosfet; Manufacturer Part Number: SM600R65CT9RL; Package: TO-252-2; LCSC Part Number: C509119; ComponentLink1Description: LCSC; ComponentLink1URL: https://www.lcsc.com/product-detail/MOSFETs_SPS-SM600R65CT9RL_C509119.html?s_z=n_TK7P65W
footprint TO-252-2L
pins: 1 G, 2 D, 3 S

## SMBJ170A-TR
designator D?
TVS DIODE 170VWM 275VC SMB; Manufacturer: STMicroelectronics; Item Type: TVS Diodes; Supplier: Mouser; LCSC Part Number: C1973536; Manufacturer Part Number: SMBJ170A-TR; RoHS: Yes; Stock: 8410; Pricing: 1=0.3, 10=0.231, 50=0.231, 100=0.167, 1000=0.122, 10000=0.115 (USD); ComponentLink1URL: https://datasheet.ciiva.com/30514/2017842-30514067.pdf?src-supplier=Jameco; ComponentLink1Description: https://datasheet.ciiva.com/30514/2017842-30514067.pdf?src-supplier=Jameco; ComponentLink2URL: https://datasheet.ciiva.com/337/cd00001366-337837.pdf?src-supplier=Digikey; ComponentLink2Description: https://datasheet.ciiva.com/337/cd00001366-337837.pdf?src-supplier=Digikey; ComponentLink3URL: https://datasheet.ciiva.com/337/cd00001366-337838.pdf?src-supplier=Digikey; ComponentLink3Description: https://datasheet.ciiva.com/337/cd00001366-337838.pdf?src-supplier=Digikey; ComponentLink4URL: https://datasheet.ciiva.com/337/cd00001366-337839.pdf?src-supplier=Digikey; ComponentLink4Description: https://datasheet.ciiva.com/337/cd00001366-337839.pdf?src-supplier=Digikey; ComponentLink5URL: https://datasheet.ciiva.com/7973/1761316-7973541.pdf?src-supplier=Element14; ComponentLink5Description: https://datasheet.ciiva.com/7973/1761316-7973541.pdf?src-supplier=Element14; ComponentLink6URL: https://datasheet.ciiva.com/7973/1761316-7973543.pdf?src-supplier=Element14; ComponentLink6Description: https://datasheet.ciiva.com/7973/1761316-7973543.pdf?src-supplier=Element14; ComponentLink7URL: https://datasheet.ciiva.com/26817/getdatasheetpartid-82970-26817756.pdf?src-supplier=Verical; ComponentLink7Description: https://datasheet.ciiva.com/26817/getdatasheetpartid-82970-26817756.pdf?src-supplier=Verical; ComponentLink8URL: https://datasheet.ciiva.com/16487/cd00001366-16487614.pdf?src-supplier=Future+Electronics; ComponentLink8Description: https://datasheet.ciiva.com/16487/cd00001366-16487614.pdf?src-supplier=Future+Electronics; ComponentLink9URL: https://datasheet.ciiva.com/14535/70014015-14535806.pdf?src-supplier=Allied+Electronics; ComponentLink9Description: https://datasheet.ciiva.com/14535/70014015-14535806.pdf?src-supplier=Allied+Electronics
footprint SMB_
pins: 1 A, 2 K

## SN6501QDBVRQ1
designator U?
IC XFRMR DRVR NCH 350MA SOT23-5; Manufacturer: Texas Instruments; Number of Outputs: 1; Min Input Voltage: 3V; Output Voltage: 11V; Max Supply Voltage: 5.5V; Operating Supply Current: 300uA; Switching Frequency: 620kHz; Supplier: Mouser; Supplier Part Number: 595-SN6501QDBVRQ1; Manufacturer Part Number: SN6501QDBVRQ1; RoHS: Yes; Category: Voltage Regulators - Switching; Stock: 21713; Pricing: 1=2.1, 10=1.89, 50=1.89, 100=1.52, 1000=1.13, 10000=0.924 (USD); Mounting Technology: Surface Mount; Case/Package: SOT-23-5; Min Operating Temperature: -40°C; Max Operating Temperature: 125°C; Output Current: 350mA; Package Quantity: 3000; Packaging: Tape and Reel; Max Output current: 350mA; Min Supply Voltage: 3V; Series: Automotive, AEC-Q100; Radiation Hardening: No; Reach SVHC Compliant: No; Lead Free: Lead Free; RoHS Compliant: Yes; ComponentLink1URL: https://datasheet.ciiva.com/25648/sn6501-q1-25648933.pdf?src-supplier=Digikey; ComponentLink1Description: https://datasheet.ciiva.com/25648/sn6501-q1-25648933.pdf?src-supplier=Digikey; ComponentLink2URL: https://datasheet.ciiva.com/24116/sllsef3-267274-24116311.pdf?src-supplier=Mouser; ComponentLink2Description: https://datasheet.ciiva.com/24116/sllsef3-267274-24116311.pdf?src-supplier=Mouser; ComponentLink3URL: https://datasheet.ciiva.com/29590/sn6501-q1-29590029.pdf?src-supplier=Digikey; ComponentLink3Description: https://datasheet.ciiva.com/29590/sn6501-q1-29590029.pdf?src-supplier=Digikey; ComponentLink4URL: https://datasheet.ciiva.com/29590/sn6501-q1-29590030.pdf?src-supplier=Digikey; ComponentLink4Description: https://datasheet.ciiva.com/29590/sn6501-q1-29590030.pdf?src-supplier=Digikey; ComponentLink5URL: https://datasheet.ciiva.com/30031/sn6501-q1-30031541.pdf?src-supplier=Avnet; ComponentLink5Description: https://datasheet.ciiva.com/30031/sn6501-q1-30031541.pdf?src-supplier=Avnet; LCSC Part Number: C544575; Item Type: IC
footprint SOT-23-5
pins: 1 D1, 2 VCC, 3 D2, 4 GND, 5 GND

## ST1L05APU33R
designator U?
IC REG LINEAR 3.3V 1.3A 6DFN; Manufacturer: STMicroelectronics; Supplier: Digikey; LCSC Part Number: C283488; Manufacturer Part Number: ST1L05APU33R; RoHS: Yes; Item Type: IC; Stock: 7599; Pricing: 1=1.06, 10=0.766, 25=0.692, 100=0.6103, 250=0.57136, 500=0.5479, 1000=0.5286 (USD); ComponentLink1URL: https://datasheet.ciiva.com/2053/cd00186925-2053848.pdf?src-supplier=Digikey; ComponentLink1Description: https://datasheet.ciiva.com/2053/cd00186925-2053848.pdf?src-supplier=Digikey; ComponentLink2URL: https://datasheet.ciiva.com/2053/cd00186925-2053849.pdf?src-supplier=Digikey; ComponentLink2Description: https://datasheet.ciiva.com/2053/cd00186925-2053849.pdf?src-supplier=Digikey; ComponentLink3URL: https://datasheet.ciiva.com/2053/cd00186925-2053850.pdf?src-supplier=Digikey; ComponentLink3Description: https://datasheet.ciiva.com/2053/cd00186925-2053850.pdf?src-supplier=Digikey; ComponentLink4URL: https://datasheet.ciiva.com/16489/cd00186925-16489850.pdf?src-supplier=Future+Electronics; ComponentLink4Description: https://datasheet.ciiva.com/16489/cd00186925-16489850.pdf?src-supplier=Future+Electronics
footprint DFN-6(3x3)
pins: 1 NC, 2 VO (power), 3 VI (power), 4 NC, 5 NC, 6 GND (power), 7 EP (power)

## TL431BQDBZT
designator U?
IC VREF SHUNT ADJ 0.5% SOT23-3; Manufacturer: Texas Instruments; Max Supply Voltage: 37V; Output Voltage: 36V; Max Output current: 100mA; Min Output Voltage: 2.495V; Cathode Current: 700uA; Temperature Coefficient: 92ppm/°C; Reference Type: Shunt,Adjustable; Output Type: Adjustable; Supplier: Mouser; LCSC Part Number: C2864384; Manufacturer Part Number: TL431BQDBZT; RoHS: Yes; Item Type: IC; Stock: 34135; Pricing: 1=0.88, 10=0.633, 50=0.57, 100=0.501, 1000=0.415, 10000=0.397 (USD); Case/Package: SOT-23-3; Pins: 3; Min Operating Temperature: -40°C; Max Operating Temperature: 125°C; Tolerance: 0.5%; Packaging: Tape and Reel; Package Quantity: 250; Max Output Voltage: 36V; Output Current: 100mA; Series: -; Reference Voltage: 36V; Thickness: 1mm; Radiation Hardening: No; Lead Free: Lead Free; RoHS Compliant: Yes; ComponentLink1URL: https://datasheet.ciiva.com/15148/getdatasheetpartid-48480-15148279.pdf?src-supplier=Verical; ComponentLink1Description: https://datasheet.ciiva.com/15148/getdatasheetpartid-48480-15148279.pdf?src-supplier=Verical; ComponentLink2URL: https://datasheet.ciiva.com/2012/tl431a-2012112.pdf?src-supplier=Digikey; ComponentLink2Description: https://datasheet.ciiva.com/2012/tl431a-2012112.pdf?src-supplier=Digikey; ComponentLink3URL: https://datasheet.ciiva.com/2012/tl431a-2012111.pdf?src-supplier=Digikey; ComponentLink3Description: https://datasheet.ciiva.com/2012/tl431a-2012111.pdf?src-supplier=Digikey; ComponentLink4URL: https://datasheet.ciiva.com/2012/tl431a-2012113.pdf?src-supplier=Digikey; ComponentLink4Description: https://datasheet.ciiva.com/2012/tl431a-2012113.pdf?src-supplier=Digikey; ComponentLink5URL: https://datasheet.ciiva.com/14366/tl432b-14366103.pdf?src-supplier=Avnet; ComponentLink5Description: https://datasheet.ciiva.com/14366/tl432b-14366103.pdf?src-supplier=Avnet
footprint SOT-23 (TRANS NPN 40V 0.6A SOT23)
pins: 1 Cathode, 2 REF, 3 Anode

## TLJA107M010R1400
designator C?, comment 100uF
100uF 10V ±20% CASE-A-3216-18(mm) Tantalum Capacitors ROHS; Manufacturer Part Number: TLJA107M010R1400; LCSC Part Number: C313517
footprint Case-A
pins: 1, 2

## TPS25740ARGER
designator U?
TPS25740A USB Type-C Rev 1.2 and USB PD 2.0 Source Controller (5V/9V/15V); Manufacturer_Name: Texas Instruments; Manufacturer_Part_Number: TPS25740ARGER; LCSC Part Number: C544309
footprint QFN50P400X400X100-25N-D
pins: 1 VTX, 2 CC1, 3 CC2, 4 GND, 5 HIPWR, 6 CTL1, 7 CTL2, 8 ~{EN12V}/~{EN9V}, 9 N/C_1, 10 N/C_2, 11 ~{UFP}, 12 PSEL, 13 DVDD, 14 PCTRL, 15 ~{GD}, 16 VAUX, 17 VDD, 18 AGND, 19 ISNS, 20 VPWR, 21 VBUS, 22 GDNG, 23 GDNS, 24 DSCG, 25 EP

## TPS76350QDBVRQ1
designator U?
IC REG LINEAR 5V 150MA SOT23-5; Manufacturer: Texas Instruments; Dropout Voltage: 180mV; Number of Outputs: 1; Max Power Dissipation: 555mW; Max Supply Voltage: 10V; Min Input Voltage: 2.7V; Min Current Limit: 500mA; Input Bias Current: 85uA; Reference Voltage: 1.192V; Polarity: Positive; Quiescent Current: 80uA; Output Voltage Accuracy: 3%; Output Type: Fixed; Supplier: Mouser; Supplier Part Number: 595-TPS76350QDBVRQ1; Manufacturer Part Number: TPS76350QDBVRQ1; RoHS: Yes; Category: Voltage Regulators - Linear; Stock: 7424; Pricing: 1=1.15, 10=1.03, 50=1.03, 100=0.81, 1000=0.528, 10000=0.451 (USD); Case/Package: SOT-23-5; Pins: 5; Min Operating Temperature: -40°C; Max Operating Temperature: 125°C; Package Quantity: 3000; Packaging: Tape and Reel; Output Voltage: 5V; Output Current: 150mA; Max Output current: 150mA; Number of Regulators: 1; Power Dissipation: 555mW; Accuracy: 3%; Max Output Voltage: 5V; Min Output Voltage: 5V; Series: Automotive, AEC-Q100; Length: 2.9mm; Width: 1.6mm; Height: 1.45mm; Thickness: 1.2mm; Radiation Hardening: No; Lead Free: Lead Free; RoHS Compliant: Yes; ComponentLink1URL: https://datasheet.ciiva.com/2044/tps76318-q1-2044688.pdf?src-supplier=Digikey; ComponentLink1Description: https://datasheet.ciiva.com/2044/tps76318-q1-2044688.pdf?src-supplier=Digikey; Item Type: IC
footprint SOT-23-5
pins: 1 VIN, 2 GND, 3 EN, 4 NC/FB, 5 OUT

## UCC28740DR
designator U?
IC OFFLINE SWITCH FLYBACK 7SOIC; Manufacturer: Texas Instruments; Supplier: Mouser; LCSC Part Number: C182073; Manufacturer Part Number: UCC28740DR; RoHS: Yes; Item Type: IC; Stock: 12848; Pricing: 1=1.11, 10=0.8, 50=0.723, 100=0.638, 1000=0.532, 10000=0.496 (USD); Length: 4.9mm; Width: 3.91mm; Height: 1.75mm; Thickness: 1.58mm; Lead Free: 5697LeadFree; ComponentLink1URL: https://datasheet.ciiva.com/24018/slusbf3a-284800-24018902.pdf?src-supplier=Mouser; ComponentLink1Description: https://datasheet.ciiva.com/24018/slusbf3a-284800-24018902.pdf?src-supplier=Mouser; ComponentLink2URL: https://datasheet.ciiva.com/30018/ucc28740-30018278.pdf?src-supplier=Avnet; ComponentLink2Description: https://datasheet.ciiva.com/30018/ucc28740-30018278.pdf?src-supplier=Avnet; ComponentLink3URL: https://datasheet.ciiva.com/29610/ucc28740-29610346.pdf?src-supplier=Digikey; ComponentLink3Description: https://datasheet.ciiva.com/29610/ucc28740-29610346.pdf?src-supplier=Digikey
footprint 7-SOIC
pins: 1 VDD, 2 VS, 3 FB, 4 GND, 5 CS, 6 DRV, 7 HV

## UMK316AB7475KL-T
designator C?, comment 4.7uF
CAP CER 4.7UF 50V X7R 1206; Manufacturer: Taiyo Yuden; Manufacturer Part Number: UMK316AB7475KL-T; Item Type: Capacitor; Tolerance: 10%; Supplier: Digikey; LCSC Part Number: C92853; RoHS: Yes; Stock: 392550; Pricing: 1=0.3, 10=0.198, 50=0.146, 100=0.1189, 500=0.09386, 1000=0.07925 (USD); Mounting Technology: Surface Mount; Case/Package: 1206; Pins: 2; Case Code (Metric): 3216; Case Code (Imperial): 1206; Min Operating Temperature: -55°C; Max Operating Temperature: 125°C; Value: 4.7uF; Voltage Rating: 50V; Packaging: Tape and Reel; Package Quantity: 2000; Voltage Rating (DC): 50V; Dielectric: X7R; Termination: SMD/SMT; Series: M; Construction: Flat; Length: 3.2mm; Width: 1.6mm; Height: 1.6mm; Depth: 1.6mm; Radiation Hardening: No; RoHS Compliant: Yes; Reach SVHC Compliant: Unknown; ComponentLink1URL: https://datasheet.ciiva.com/170/umk316ab7475kl-t-ss-170928.pdf?src-supplier=Digikey; ComponentLink1Description: https://datasheet.ciiva.com/170/umk316ab7475kl-t-ss-170928.pdf?src-supplier=Digikey; ComponentLink2URL: https://datasheet.ciiva.com/2990/umk316ab7475kl-t-ss-2990070.pdf?src-supplier=Avnet; ComponentLink2Description: https://datasheet.ciiva.com/2990/umk316ab7475kl-t-ss-2990070.pdf?src-supplier=Avnet; ComponentLink3URL: https://datasheet.ciiva.com/15922/1010umk316ab7475kl-t-15922628.pdf?src-supplier=Onlinecomponents.com; ComponentLink3Description: https://datasheet.ciiva.com/15922/1010umk316ab7475kl-t-15922628.pdf?src-supplier=Onlinecomponents.com; ComponentLink4URL: https://datasheet.ciiva.com/7975/1481447-7975911.pdf?src-supplier=Element14; ComponentLink4Description: https://datasheet.ciiva.com/7975/1481447-7975911.pdf?src-supplier=Element14; ComponentLink5URL: https://datasheet.ciiva.com/5413/mlcc-all-e-541559-5413006.pdf?src-supplier=Mouser; ComponentLink5Description: https://datasheet.ciiva.com/5413/mlcc-all-e-541559-5413006.pdf?src-supplier=Mouser
footprint Cap-1206 (SMD 1206)
pins: 1, 2

## US1M-13-F
designator D?
DIODE STANDARD 1000V 1A SMA; Manufacturer: Diodes; Value: 10pF; Polarity: 4901Direction; Voltage Rating (DC): 1kV; Supplier: Avnet; LCSC Part Number: C99333; Manufacturer Part Number: US1M-13-F; RoHS: Yes; Item Type: Diodes; Stock: 29030000; Pricing: 5000=0.02564, 10000=0.02516, 20000=0.02503, 30000=0.0249, 40000=0.02477 (USD); Current Rating: 1A; Output Current: 1A; Reverse Voltage: 1kV; Lead Free: 5697LeadFree; ComponentLink1URL: https://datasheet.ciiva.com/27052/1542696-27052440.pdf?src-supplier=Jameco; ComponentLink1Description: https://datasheet.ciiva.com/27052/1542696-27052440.pdf?src-supplier=Jameco; ComponentLink2URL: https://datasheet.ciiva.com/4454/ds16008-60440-4454096.pdf?src-supplier=Mouser; ComponentLink2Description: https://datasheet.ciiva.com/4454/ds16008-60440-4454096.pdf?src-supplier=Mouser; ComponentLink3URL: https://datasheet.ciiva.com/8301/ds16008-8301519.pdf?src-supplier=Avnet; ComponentLink3Description: https://datasheet.ciiva.com/8301/ds16008-8301519.pdf?src-supplier=Avnet; ComponentLink4URL: https://datasheet.ciiva.com/8303/ds16008-8303103.pdf?src-supplier=Avnet; ComponentLink4Description: https://datasheet.ciiva.com/8303/ds16008-8303103.pdf?src-supplier=Avnet; ComponentLink5URL: https://datasheet.ciiva.com/917/ds16008-917195.pdf?src-supplier=Digikey; ComponentLink5Description: https://datasheet.ciiva.com/917/ds16008-917195.pdf?src-supplier=Digikey; ComponentLink6URL: https://datasheet.ciiva.com/917/ds16008-917196.pdf?src-supplier=Digikey; ComponentLink6Description: https://datasheet.ciiva.com/917/ds16008-917196.pdf?src-supplier=Digikey; ComponentLink7URL: https://datasheet.ciiva.com/22695/1906610-22695853.pdf?src-supplier=Element14; ComponentLink7Description: https://datasheet.ciiva.com/22695/1906610-22695853.pdf?src-supplier=Element14
footprint SMA(DO-214AC)
pins: 1 K, 2 A

## X6511WV-02H-C60D30
designator J?  (value not drawn)
Gold 250V 3A Straight Square Pins 2.5mm 2P 260℃ 6mm -40℃~+105℃ 3mm 2.54mm Plugin Black Brass 1x2P Plugin,P=2.54mm Pin Headers ROHS; Manufacturer: XKB; Item Type: Male Header; Manufacturer Part Number: X6511WV-02H-C60D30; Package: Plugin,P=2.54mm; LCSC Part Number: C706874; ComponentLink1Description: LCSC; ComponentLink1URL: https://www.lcsc.com/product-detail/Pin-Headers_XKB-Connectivity-X6511WV-02H-C60D30_C706874.html
footprint HDR1X2_ (CONN HEADER VERT 2POS 2.54MM)
pins: 1, 2